# Altium footprint library A6S-8104-H.PcbLib: 1 footprints
Each footprint in its own frame and in the unit in brackets; x right, y up, seen from the top. Pads: shape width x height; smd on the part's side, far side on the other; paste and mask are expansions set on the pad; w line width, h text height; cw(c..) or ccw(c..) is an arc to the next point about the centre after c.
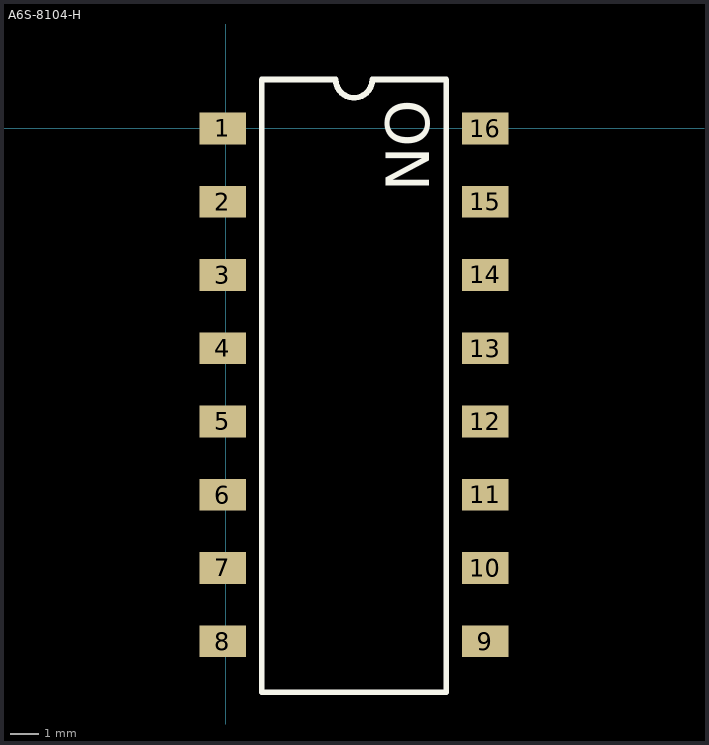
[diagram p0: the footprint, top view; thin cyan lines are the x and y axes]

## A6S-8104-H [mm]
pads (16):
  rect 1.6x1.1 smd: 1(-0.1,0) 2(-0.1,-2.54) 3(-0.1,-5.08) 4(-0.1,-7.62) 5(-0.1,-10.16) 6(-0.1,-12.7) 7(-0.1,-15.24) 8(-0.1,-17.78) 9(9,-17.78) 10(9,-15.24) 11(9,-12.7) 12(9,-10.16) 13(9,-7.62) 14(9,-5.08) 15(9,-2.54) 16(9,0)
Top Overlay:
  lines w0.2: 1.25,-19.55 7.65,-19.55 7.65,1.7 5.085,1.7 cw(c4.45,1.7) 3.815,1.7 1.25,1.7 1.25,-19.55
  text "ON" at 5.554,0.996 h1.52
3D body "A6S_8104_H.step": height 4.4, standoff 0, extent -0.45,-19.53 9.35,1.73